# Altium schematic symbol library SCH - POWER - LINEAR VREG - TI LM1086CS-2.5.SchLib: 1 symbol
Pins are listed as number, name and electrical type; pins without a type are passive.

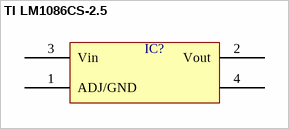
[diagram p0: symbol TI LM1086CS-2.5]

## TI LM1086CS-2.5
designator IC?  (value not drawn)
pins: 1 ADJ/GND, 2 Vout, 3 Vin, 4